# Altium footprint library Digital_Converters_DAC.PcbLib: 1 footprints
Each footprint in its own frame and in the unit in brackets; x right, y up, seen from the top. Pads: shape width x height; smd on the part's side, far side on the other; paste and mask are expansions set on the pad; w line width, h text height; cw(c..) or ccw(c..) is an arc to the next point about the centre after c.
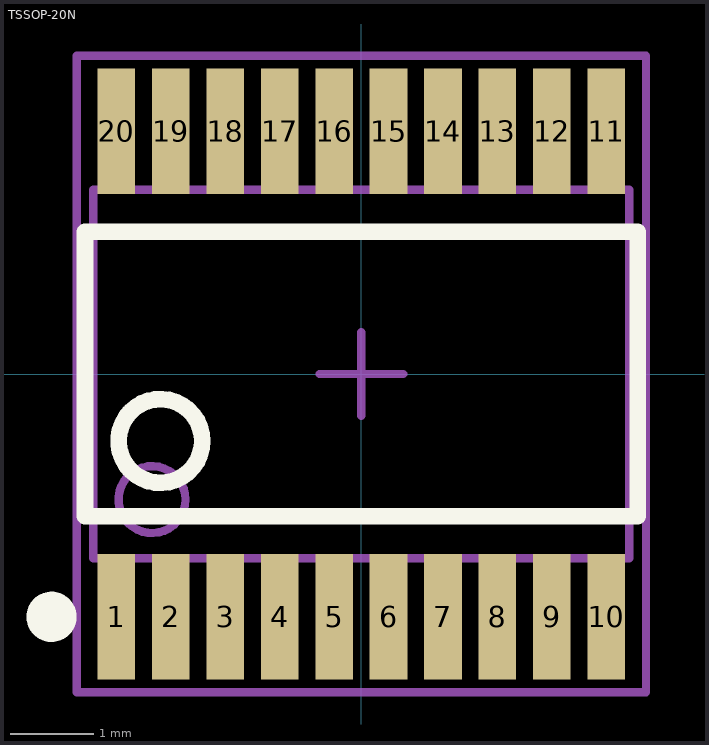
[diagram p0: the footprint, top view; thin cyan lines are the x and y axes]

## TSSOP-20N [mm]
height 1.2
pads (20):
  rect 0.45x1.5 smd: 1(-2.925,-2.9) 2(-2.275,-2.9) 3(-1.625,-2.9) 4(-0.975,-2.9) 5(-0.325,-2.9) 6(0.325,-2.9) 7(0.975,-2.9) 8(1.625,-2.9) 9(2.275,-2.9) 10(2.925,-2.9) 11(2.925,2.9) 12(2.275,2.9) 13(1.625,2.9) 14(0.975,2.9) 15(0.325,2.9) 16(-0.325,2.9) 17(-0.975,2.9) 18(-1.625,2.9) 19(-2.275,2.9) 20(-2.925,2.9)
Top Overlay:
  circle w0.3: c-3.7,-2.9 r0.15
  circle w0.2: c-2.4,-0.8 r0.5
  lines w0.2: -3.3,-1.7 3.3,-1.7 3.3,1.7 -3.3,1.7 -3.3,-1.7
Top Package:
  circle w0.1: c-2.5,-1.5 r0.4
  lines w0.1: -3.025,-2.2 -3.025,-3.2 -2.825,-3.2 -2.825,-2.2 ; -3.025,2.2 -3.025,3.2 -2.825,3.2 -2.825,2.2 ; -2.375,-2.2 -2.375,-3.2 -2.175,-3.2 -2.175,-2.2 ; -2.375,2.2 -2.375,3.2 -2.175,3.2 -2.175,2.2 ; -1.725,-2.2 -1.725,-3.2 -1.525,-3.2 -1.525,-2.2 ; -1.725,2.2 -1.725,3.2 -1.525,3.2 -1.525,2.2 ; -1.075,-2.2 -1.075,-3.2 -0.875,-3.2 -0.875,-2.2 ; -1.075,2.2 -1.075,3.2 -0.875,3.2 -0.875,2.2 ; -0.425,-2.2 -0.425,-3.2 -0.225,-3.2 -0.225,-2.2 ; -0.425,2.2 -0.425,3.2 -0.225,3.2 -0.225,2.2 ; 0.225,-2.2 0.225,-3.2 0.425,-3.2 0.425,-2.2 ; 0.225,2.2 0.225,3.2 0.425,3.2 0.425,2.2 ; 0.875,-2.2 0.875,-3.2 1.075,-3.2 1.075,-2.2 ; 0.875,2.2 0.875,3.2 1.075,3.2 1.075,2.2 ; 1.525,-2.2 1.525,-3.2 1.725,-3.2 1.725,-2.2 ; 1.525,2.2 1.525,3.2 1.725,3.2 1.725,2.2 ; 2.175,-2.2 2.175,-3.2 2.375,-3.2 2.375,-2.2 ; 2.175,2.2 2.175,3.2 2.375,3.2 2.375,2.2 ; 2.825,-2.2 2.825,-3.2 3.025,-3.2 3.025,-2.2 ; 2.825,2.2 2.825,3.2 3.025,3.2 3.025,2.2 ; -3.2,-2.2 3.2,-2.2 3.2,2.2 -3.2,2.2 -3.2,-2.2
Top Comment:
  text ".Comment" at -2.129,-0.504 h1.5
Top Designator:
  text ".Designator" at -3.437,-0.481 h2
Top Border:
  lines w0.1: -0.5,0 0.5,0 ; 0,-0.5 0,0.5 ; -3.4,-3.8 3.4,-3.8 3.4,3.8 -3.4,3.8 -3.4,-3.8
3D body "TSSOP-20.STEP": height 1.2, standoff 0, extent -3.25,-3.2 3.25,3.2